# Altium schematic symbol library 5551-D_Wrist Watch.SchLib: 74 symbols
Pins are listed as number, name and electrical type; pins without a type are passive.

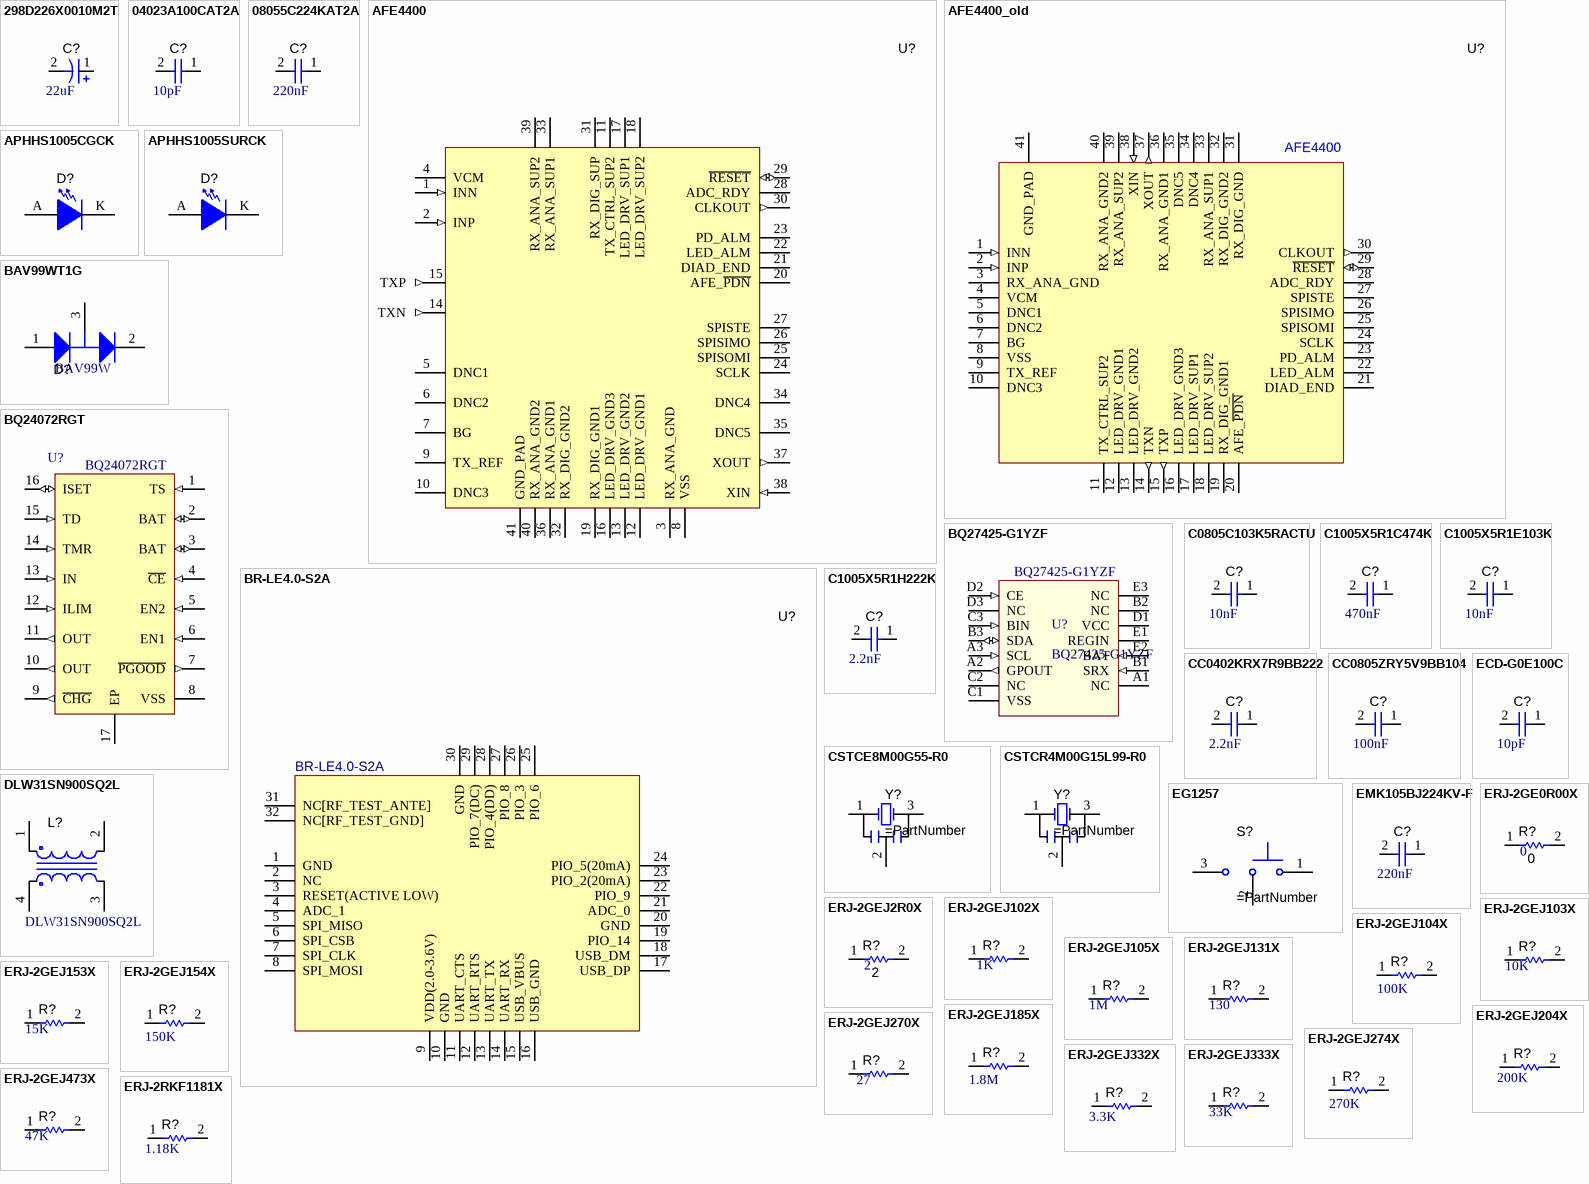
[diagram p0: symbols 298D226X0010M2T to ERJ-2RKF1181X]

## 298D226X0010M2T
designator C?  value 22uF  (hidden comment: 298D226X0010M2T)
CAP, TANTALUM, 22UF, 20%, 10V, SMT0603; MANUFACTURER: VISHAY; POPULATE: Y; CONSIGNED: N; PART NUMBER: 298D226X0010M2T
footprint Model Name (Model Description)
footprint C0603_POL
pins: 1 +, 2 -

## 04023A100CAT2A
designator C?  value 10pF  (hidden comment: 04023A100CAT2A)
CAP, CERAMIC, 10PF, +/-0.25 pF, 25V, C0G, SMT0402; MANUFACTURER: AVX; POPULATE: Y; CONSIGNED: N; PART NUMBER: 04023A100CAT2A
footprint 0402
pins: 1, 2

## 08055C224KAT2A
designator C?  value 220nF  (hidden comment: 08055C224KAT2A)
CAP, CERAMIC, 220NF, 10%, 50V, X7R, SMT0805; MANUFACTURER: AVX; POPULATE: Y; CONSIGNED: N; PART NUMBER: 08055C224KAT2A
footprint 0805
pins: 1, 2

## AFE4400
designator U?  value AFE4400
IC, INTEGRATED ANALOG FRONT-END FOR HEART RATE MONITORS AND LOW-COST PULSE OXIMETERS, QFN-40; MANUFACTURER: TEXAS INSTRUMENTS; POPULATE: Y; PART NUMBER: AFE4400; CONSIGNED: Y
footprint QFN-40[RHA-42P]
pins: 1 INN (in), 2 INP (in), 3 RX_ANA_GND (power), 4 VCM (power), 5 DNC1, 6 DNC2, 7 BG, 8 VSS (power), 9 TX_REF (power), 10 DNC3, 11 TX_CTRL_SUP2 (power), 12 LED_DRV_GND1 (power), 13 LED_DRV_GND2 (power), 14 TXN (out), 15 TXP (out), 16 LED_DRV_GND3 (power), 17 LED_DRV_SUP1 (power), 18 LED_DRV_SUP2 (power), 19 RX_DIG_GND1 (power), 20 AFE_~{PDN} (power), 21 DIAD_END, 22 LED_ALM, 23 PD_ALM, 24 SCLK, 25 SPISOMI, 26 SPISIMO, 27 SPISTE, 28 ADC_RDY, 29 ~{RESET} (io), 30 CLKOUT (out), 31 RX_DIG_SUP (power), 32 RX_DIG_GND2 (power), 33 RX_ANA_SUP1 (power), 34 DNC4, 35 DNC5, 36 RX_ANA_GND1 (power), 37 XOUT (out), 38 XIN (in), 39 RX_ANA_SUP2 (power), 40 RX_ANA_GND2 (power), 41 GND_PAD (power)

## AFE4400_old
designator U?  value AFE4400
IC, INTEGRATED ANALOG FRONT-END FOR HEART RATE MONITORS AND LOW-COST PULSE OXIMETERS, QFN-40; MANUFACTURER: TEXAS INSTRUMENTS; POPULATE: Y; PART NUMBER: AFE4400; CONSIGNED: Y
footprint QFN-40[RHA-42P]
pins: 1 INN (in), 2 INP (in), 3 RX_ANA_GND (power), 4 VCM (power), 5 DNC1, 6 DNC2, 7 BG, 8 VSS (power), 9 TX_REF (power), 10 DNC3, 11 TX_CTRL_SUP2 (power), 12 LED_DRV_GND1 (power), 13 LED_DRV_GND2 (power), 14 TXN (out), 15 TXP (out), 16 LED_DRV_GND3 (power), 17 LED_DRV_SUP1 (power), 18 LED_DRV_SUP2 (power), 19 RX_DIG_GND1 (power), 20 AFE_~{PDN} (power), 21 DIAD_END, 22 LED_ALM, 23 PD_ALM, 24 SCLK, 25 SPISOMI, 26 SPISIMO, 27 SPISTE, 28 ADC_RDY, 29 ~{RESET} (io), 30 CLKOUT (out), 31 RX_DIG_GND (power), 32 RX_DIG_GND2 (power), 33 RX_ANA_SUP1 (power), 34 DNC4, 35 DNC5, 36 RX_ANA_GND1 (power), 37 XOUT (out), 38 XIN (in), 39 RX_ANA_SUP2 (power), 40 RX_ANA_GND2 (power), 41 GND_PAD (power)

## APHHS1005CGCK
designator D?
LED, GREEN, SMT0402; PART NUMBER: APHHS1005CGCK; MANUFACTURER: KINGBRIGHT; POPULATE: Y; CONSIGNED: N; VALUE: GREEN
footprint LED_0402
pins: A, K

## APHHS1005SURCK
designator D?
LED, RED, SMT0402; PART NUMBER: APHHS1005SURCK; MANUFACTURER: KINGBRIGHT; POPULATE: Y; CONSIGNED: N; VALUE: RED
footprint LED_0402
pins: A, K

## BAV99WT1G
designator D?  value BAV99W
DIODE, DUAL SWITCHING DIODE,  0.215A, 70V, SOT-323; PART NUMBER: BAV99WT1G; MANUFACTURER: ON SEMICONDUCTOR; POPULATE: Y; CONSIGNED: N
footprint SOT-323
pins: 1 A, 2 C, 3 A_C
1 alternate drawing of the same symbol

## BQ24072RGT
designator U?
IC, 1.5A USB-FRIENDLY Li-Ion BATTERY CHARGER AND POWER-PATH MANAGEMENT IC, QFN-16; MANUFACTURER: TEXAS INSTRUMENTS; POPULATE: Y; PART NUMBER: BQ24072RGT; CONSIGNED: Y; VALUE: BQ24072RGT
footprint RGT16
pins: 1 TS (in) "External NTC Thermistor Input. Connect the TS input to the NTC thermistor in the battery pack. TS monitors a 10-k ohm NTC thermistor. For applications that do not utilize the TS function, connect a 10-k ohm fixed resistor (See Datasheet)", 2 BAT (io) "Charger Power Stage Output and Battery Voltage Sense Input. Connect BAT to the positive terminal of the battery. Bypass BAT to VSS with a 4.7-uF to 47-uF ceramic capacitor.", 3 BAT (io) "Charger Power Stage Output and Battery Voltage Sense Input. Connect BAT to the positive terminal of the battery. Bypass BAT to VSS with a 4.7-uF to 47-uF ceramic capacitor.", 4 ~{CE} (in) "Charge Enable Active-Low Input. Connect C\E\ to a high logic level to place the battery charger in standby mode. In standby mode, OUT is active and battery supplement mode is still available. Connect C\E\ to a low logic (See Datasheet)", 5 EN2 (in) "Input Current Limit Configuration Inputs. Use EN1 and EN2 control the maximum input current and enable USB compliance. See Table 2 for the description of the operation states. EN1 and EN2 are internally pulled down with ~285 (See Datasheet)", 6 EN1 (in) "Input Current Limit Configuration Inputs. Use EN1 and EN2 control the maximum input current and enable USB compliance. See Table 2 for the description of the operation states. EN1 and EN2 are internally pulled down with ~285 (See Datasheet)", 7 ~{PGOOD} (out) "Open-drain Power Good Status Indication Output. P\G\O\O\D\ pulls to VSS when a valid input source is detected. P\G\O\O\D\ is high-impedance when the input power is not within specified limits. Connect P\G\O\O\D\ to the (See Datasheet)", 8 VSS (power) "Ground. Connect to the thermal pad and to the ground rail of the circuit.", 9 ~{CHG} (out) "Open-Drain Charging Status Indication Output. C\H\G\ pulls to VSS when the battery is charging. C\H\G\ is high impedance when charging is complete and when charger is disabled.", 10 OUT (out) "System Supply Output. OUT provides a regulated output when the input is below the OVP threshold and above the regulation voltage. When the input is out of the operation range, OUT is connected to VBAT. Connect OUT to the (See Datasheet)", 11 OUT (out) "System Supply Output. OUT provides a regulated output when the input is below the OVP threshold and above the regulation voltage. When the input is out of the operation range, OUT is connected to VBAT. Connect OUT to the (See Datasheet)", 12 ILIM (in) "Adjustable Current Limit Programming Input. Connect a 3.1-k ohm to 7.8-k ohm resistor from ILIM to VSS to program the maximum input current (EN2=1, EN1=0). The input current includes the system load and the battery charge (See Datasheet)", 13 IN (in) "Input Power Connection. Connect IN to the connected to external DC supply (AC adapter or USB port). The input operating range is 4.35 V to 6.6 V. (bq24072)The input can accept voltages up to 26 V without damage but operation (See Datasheet)", 14 TMR (in) "Timer Programming Input. TMR controls the precharge and fast-charge safety timers. Connect TMR to VSS to disable all safety timers. Connect a 18-k ohm to 72-k ohm resistor between TMR and VSS to program the timers a desired (See Datasheet)", 15 TD (in) "Termination Disable Input. Connect TD high to disable charger termination. Connect TD to VSS to enable charger termination. TD is checked during start-up only and cannot be changed during operation. See the TD section in (See Datasheet)", 16 ISET (io) "Fast-Charge Current Programming Input. Connect a 3-k ohm to 36-k ohm resistor from ISET to VSS to program the fast-charge current level. Charging is disabled if ISET is left unconnected. While charging, the voltage at ISET (See Datasheet)", 17 EP (power) "There is an internal electrical connection exists between the exposed thermal pad and the VSS pin of the device. The thermal pad must be connected to the same potential as the VSS pin on the printed-circuit board. Do not use (See Datasheet)"

## BQ27425-G1YZF
designator U?
IC, SYSTEM-SIDE IMPEDANCE TRACK FUEL GAUGE WITH INTEGRATED SENSE RESISTOR, BGA-15, YZF; MANUFACTURER: TEXAS INSTRUMENTS; POPULATE: Y; PART NUMBER: BQ27425-G1YZF; CONSIGNED: Y; VALUE: BQ27425-G1YZF
footprint YZF-15
pins: A1 NC, A2 GPOUT (out), A3 SCL (in), B1 SRX (in), B2 NC, B3 SDA (io), C1 VSS (power), C2 NC, C3 BIN (in), D1 VCC (power), D2 CE (in), D3 NC, E1 REGIN (power), E2 BAT (in), E3 NC

## BR-LE4.0-S2A
designator U?  value BR-LE4.0-S2A
IC, 4.0 LOW ENERGY SINGLE MODE CLASS 1 SoC MODULE, QFN-32; MANUFACTURER: BLUE RADIOS; POPULATE: Y; PART NUMBER: BR-LE4.0-S2A; CONSIGNED: Y
footprint BR-LE4.0-D2A
pins: 1 GND (power), 2 NC, 3 RESET(ACTIVE LOW), 4 ADC_1, 5 SPI_MISO, 6 SPI_CSB, 7 SPI_CLK, 8 SPI_MOSI, 9 VDD(2.0-3.6V) (power), 10 GND (power), 11 UART_CTS, 12 UART_RTS, 13 UART_TX, 14 UART_RX, 15 USB_VBUS, 16 USB_GND, 17 USB_DP, 18 USB_DM, 19 PIO_14, 20 GND (power), 21 ADC_0, 22 PIO_9, 23 PIO_2(20mA), 24 PIO_5(20mA), 25 PIO_6, 26 PIO_3, 27 PIO_8, 28 PIO_4(DD), 29 PIO_7(DC), 30 GND (power), 31 NC[RF_TEST_ANTE], 32 NC[RF_TEST_GND]

## C0805C103K5RACTU
designator C?  value 10nF  (hidden comment: C0805C103K5RACTU)
CAP, CERAMIC, 10NF, 10%, 50V, X7R, SMT0805; MANUFACTURER: KEMET; POPULATE: Y; CONSIGNED: N; PART NUMBER: C0805C103K5RACTU
footprint 0805
pins: 1, 2

## C1005X5R1C474K
designator C?  value 470nF  (hidden comment: C1005X5R1C474K)
CAP, CERAMIC, 470NF, 10%, 16V, X5R, SMT0402; MANUFACTURER: TDK; POPULATE: Y; CONSIGNED: N; PART NUMBER: C1005X5R1C474K
footprint 0402
pins: 1, 2

## C1005X5R1E103K
designator C?  value 10nF  (hidden comment: C1005X5R1E103K)
CAP, CERAMIC, 10NF, 10%, 25V, X5R, SMT0402; MANUFACTURER: TDK; POPULATE: Y; CONSIGNED: N; PART NUMBER: C1005X5R1E103K
footprint 0402
pins: 1, 2

## C1005X5R1H222K
designator C?  value 2.2nF  (hidden comment: C1005X5R1H222K)
CAP, CERAMIC, 2.2NF, 10%, 50V, X5R, SMT0402; MANUFACTURER: TDK; POPULATE: Y; CONSIGNED: N; PART NUMBER: C1005X5R1H222K
footprint 0402
pins: 1, 2

## CC0402KRX7R9BB222
designator C?  value 2.2nF  (hidden comment: CC0402KRX7R9BB222)
CAP, CERAMIC, 2.2NF, 10%, 50V, X7R, SMT0402; MANUFACTURER: YAGEO; POPULATE: Y; CONSIGNED: N; PART NUMBER: CC0402KRX7R9BB222
footprint 0402
pins: 1, 2

## CC0805ZRY5V9BB104
designator C?  value 100nF  (hidden comment: CC0805ZRY5V9BB104)
CAP, CERAMIC, 100NF, -20%TO+80%, 50V, Y5V, SMT0805; MANUFACTURER: YAGEO; POPULATE: Y; CONSIGNED: N; PART NUMBER: CC0805ZRY5V9BB104
footprint 0805
pins: 1, 2

## CSTCE8M00G55-R0
designator Y?
CRYSTAL, PIEZO CERAMIC RESONATOR, 8.00 MHz, SMD, 0.5%, 33pF, SMD; PART NUMBER: CSTCE8M00G55-R0; MANUFACTURER: MURATA; VALUE: 8MHz; POPULATE: Y; CONSIGNED: N
footprint RESONATOR-1.3X3.2-MURATA
pins: 1, 2, 3

## CSTCR4M00G15L99-R0
designator Y?
CRYSTAL, PIEZO CERAMIC RESONATOR, 4.00 MHz,  +/-0.1%, 39pF, SMD; PART NUMBER: CSTCR4M00G15L99-R0; MANUFACTURER: MURATA; VALUE: 4MHz; POPULATE: Y; CONSIGNED: N
footprint CRYSTAL-2X4.5MM_3P
pins: 1, 2, 3

## DLW31SN900SQ2L
designator L?  value DLW31SN900SQ2L
INDUCTOR, CHOKE COIL WIRE WOUND, 0.37A, SMT1206, 4-PIN; MANUFACTURER: MURATA; POPULATE: Y; CONSIGNED: N; PART NUMBER: DLW31SN900SQ2L
footprint IND_1206-4P
pins: 1, 2, 3, 4

## ECD-G0E100C
designator C?  value 10pF  (hidden comment: ECD-G0E100C)
CAP, CERAMIC, 10PF, +/-0.25 pF, 25V, C0G, SMT0402; MANUFACTURER: PANASONIC; POPULATE: Y; CONSIGNED: N; PART NUMBER: ECD-G0E100C
footprint 0402
pins: 1, 2

## EG1257
designator S?
SWITCH, SPDT, SLIDE, SMD; PART NUMBER: EG1257; MANUFACTURER: E-SWITCH; VALUE: EG1257; POPULATE: Y; CONSIGNED: N
footprint SW_EG1257
pins: 1, 2, 3

## EMK105BJ224KV-F
designator C?  value 220nF  (hidden comment: EMK105BJ224KV-F)
CAP, CERAMIC, 220NF, 10%, 16V, X5R, SMT0402; MANUFACTURER: TAIYO YUDEN; POPULATE: Y; CONSIGNED: N; PART NUMBER: EMK105BJ224KV-F
footprint 0402
pins: 1, 2

## ERJ-2GE0R00X
designator R?, comment 0
RESISTOR, THICK FILM, 0, JUMPER, 0.1W, SMT0402; PART NUMBER: ERJ-2GE0R00X; MANUFACTURER: PANASONIC; POPULATE: N; CONSIGNED: N; VALUE: 0
footprint 0402
pins: 1, 2

## ERJ-2GEJ2R0X
designator R?, comment 2
RESISTOR, THICK FILM, 2, 0.1W, 5%, SMT0402; PART NUMBER: ERJ-2GEJ2R0X; MANUFACTURER: PANASONIC; POPULATE: N; CONSIGNED: N; VALUE: 2
footprint 0402
pins: 1, 2

## ERJ-2GEJ102X
designator R?, comment 1K
RESISTOR, THICK FILM, 1K, 5%, 0.1W, SMT0402; PART NUMBER: ERJ-2GEJ102X; MANUFACTURER: PANASONIC; POPULATE: Y; CONSIGNED: N; VALUE: 1K
footprint 0402
pins: 1, 2

## ERJ-2GEJ103X
designator R?, comment 10K
RESISTOR, THICK FILM, 10K, 5%, 0.1W, SMT0402; PART NUMBER: ERJ-2GEJ103X; MANUFACTURER: PANASONIC; POPULATE: Y; CONSIGNED: N; VALUE: 10K
footprint 0402
pins: 1, 2

## ERJ-2GEJ104X
designator R?, comment 100K
RESISTOR, THICK FILM, 100K, 5%, 0.1W, SMT0402; PART NUMBER: ERJ-2GEJ104X; MANUFACTURER: PANASONIC; POPULATE: Y; CONSIGNED: N; VALUE: 100K
footprint 0402
pins: 1, 2

## ERJ-2GEJ105X
designator R?, comment 1M
RESISTOR, THICK FILM, 1M, 5%, 0.1W, SMT0402; PART NUMBER: ERJ-2GEJ105X; MANUFACTURER: PANASONIC; POPULATE: Y; CONSIGNED: N; VALUE: 1M
footprint 0402
pins: 1, 2

## ERJ-2GEJ131X
designator R?, comment 130
RESISTOR, THICK FILM, 130 OHM, 5%, 0.1W, SMT0402; PART NUMBER: ERJ-2GEJ131X; MANUFACTURER: PANASONIC; POPULATE: Y; CONSIGNED: N; VALUE: 130
footprint 0402
pins: 1, 2

## ERJ-2GEJ153X
designator R?, comment 15K
RESISTOR, THICK FILM, 15K, 5%, 0.1W, SMT0402; PART NUMBER: ERJ-2GEJ153X; MANUFACTURER: PANASONIC; POPULATE: Y; CONSIGNED: N; VALUE: 15K
footprint 0402
pins: 1, 2

## ERJ-2GEJ154X
designator R?, comment 150K
RESISTOR, THICK FILM, 150K, 5%, 0.1W, SMT0402; PART NUMBER: ERJ-2GEJ154X; MANUFACTURER: PANASONIC; POPULATE: Y; CONSIGNED: N; VALUE: 150K
footprint 0402
pins: 1, 2

## ERJ-2GEJ185X
designator R?, comment 1.8M
RESISTOR, THICK FILM, 1.8M, 5%, 0.1W, SMT0402; PART NUMBER: ERJ-2GEJ185X; MANUFACTURER: PANASONIC; POPULATE: Y; CONSIGNED: N; VALUE: 1.8M
footprint 0402
pins: 1, 2

## ERJ-2GEJ204X
designator R?, comment 200K
RESISTOR, THICK FILM, 200K, 5%, 0.1W, SMT0402; PART NUMBER: ERJ-2GEJ204X; PARTNUMBER: PANASONIC; POPULATE: Y; CONSIGNED: N; VALUE: 200K
footprint 0402
pins: 1, 2

## ERJ-2GEJ270X
designator R?, comment 27
RESISTOR, THICK FILM, 27 OHM, 5%, 0.1W, SMT0402; PART NUMBER: ERJ-2GEJ270X; MANUFACTURER: PANASONIC; POPULATE: Y; CONSIGNED: N; VALUE: 27
footprint 0402
pins: 1, 2

## ERJ-2GEJ274X
designator R?, comment 270K
RESISTOR, THICK FILM, 270K, 5%, 0.1W, SMT0402; PART NUMBER: ERJ-2GEJ274X; MANUFACTURER: PANASONIC; POPULATE: Y; CONSIGNED: N; VALUE: 270K
footprint 0402
pins: 1, 2

## ERJ-2GEJ332X
designator R?, comment 3.3K
RESISTOR, THICK FILM, 3.3K, 5%, 0.1W, SMT0402; PART NUMBER: ERJ-2GEJ332X; MANUFACTURER: PANASONIC; POPULATE: Y; CONSIGNED: N; VALUE: 3.3K
footprint 0402
pins: 1, 2

## ERJ-2GEJ333X
designator R?, comment 33K
RESISTOR, THICK FILM, 33K, 5%, 0.1W, SMT0402; PART NUMBER: ERJ-2GEJ333X; MANUFACTURER: PANASONIC; POPULATE: Y; CONSIGNED: N; VALUE: 33K
footprint 0402
pins: 1, 2

## ERJ-2GEJ473X
designator R?, comment 47K
RESISTOR, THICK FILM, 47K, 5%, 0.1W, SMT0402; PART NUMBER: ERJ-2GEJ473X; MANUFACTURER: PANASONIC; POPULATE: Y; CONSIGNED: N; VALUE: 47K
footprint 0402
pins: 1, 2

## ERJ-2RKF1181X
designator R?, comment 1.18K
RESISTOR, THICK FILM, 1.18K, 1%, 0.1W, SMT0402; PARTNUMBER: ERJ-2RKF1181X; MANUFACTURER: PANASONIC; POPULATE: Y; CONSIGNED: N; VALUE: 1.18K
footprint 0402
pins: 1, 2

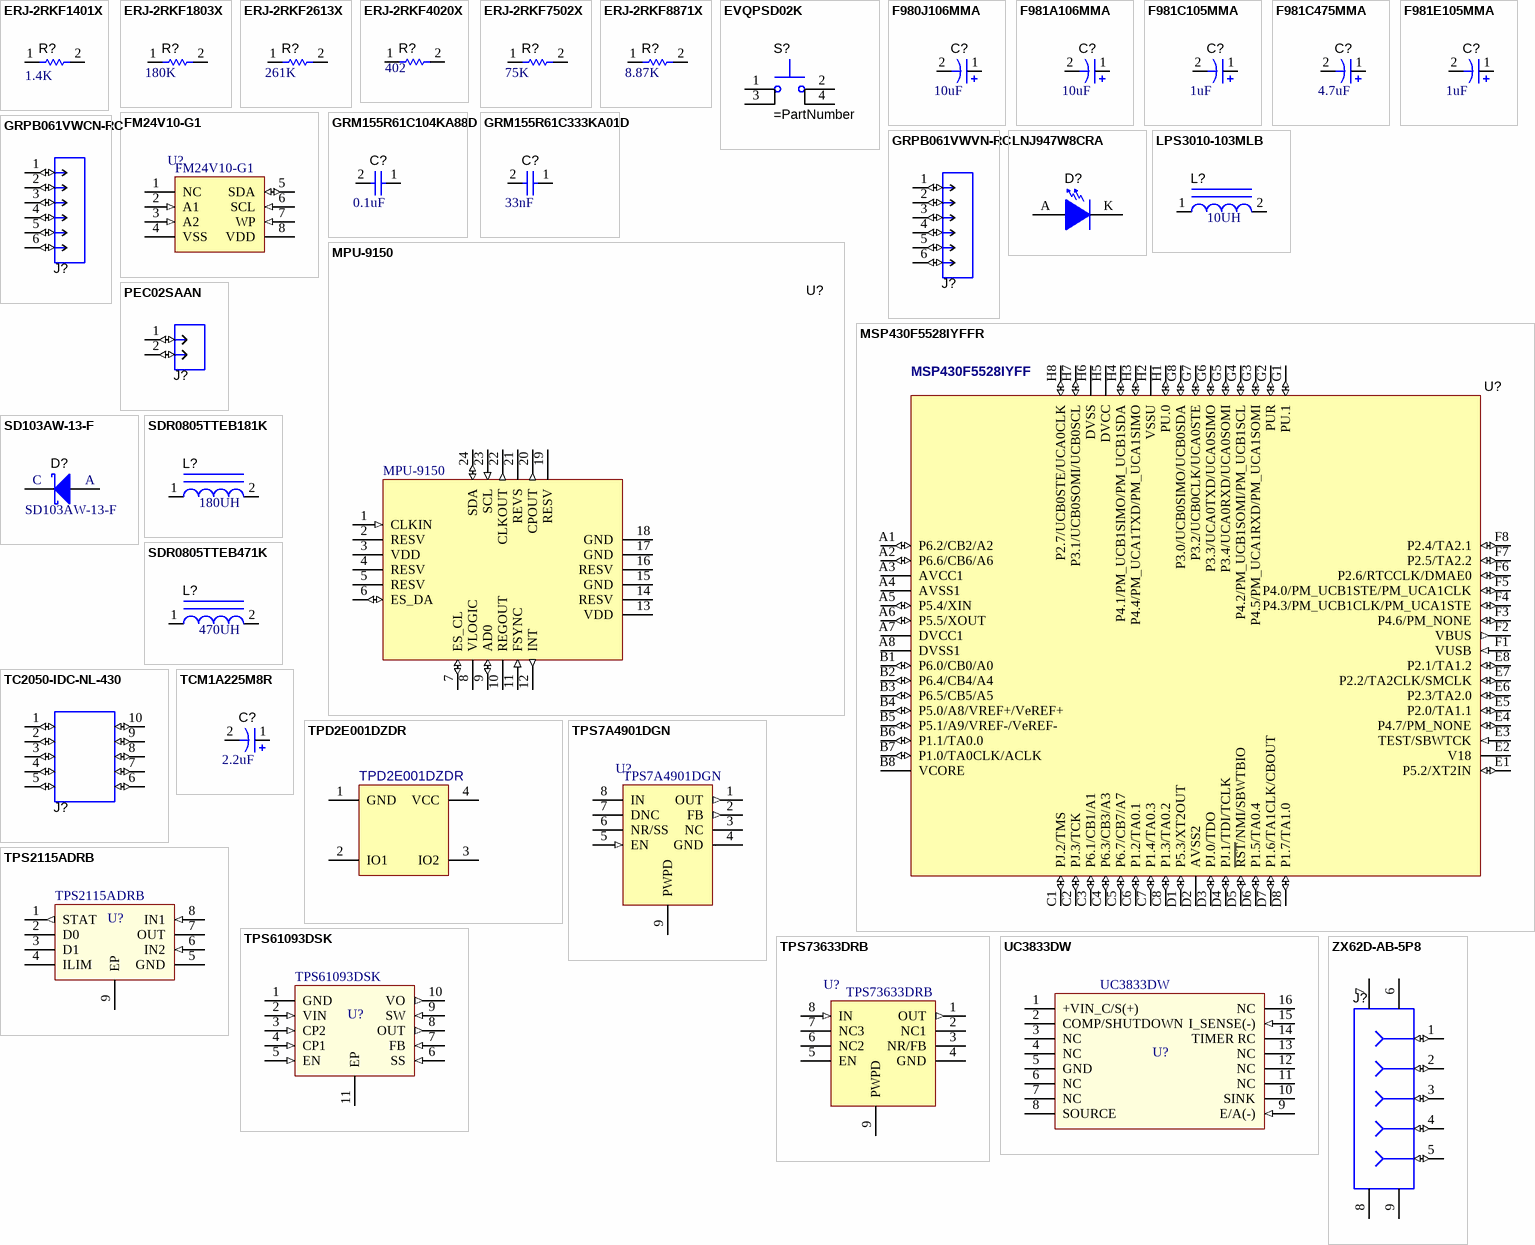
[diagram p1: symbols ERJ-2RKF1401X to ZX62D-AB-5P8]

## ERJ-2RKF1401X
designator R?, comment 1.4K
RESISTOR, THICK FILM, 1.4K, 1%, 0.1W, SMT0402; PART NUMBER: ERJ-2RKF1401X; MANUFACTURER: PANASONIC; POPULATE: Y; CONSIGNED: N; VALUE: 1.4K
footprint 0402
pins: 1, 2

## ERJ-2RKF1803X
designator R?, comment 180K
RESISTOR, THICK FILM, 180K, 1%, 0.1W, SMT0402; PARTNUMBER: ERJ-2RKF1803X; MANUFACTURER: PANASONIC; POPULATE: Y; CONSIGNED: N; VALUE: 180K
footprint 0402
pins: 1, 2

## ERJ-2RKF2613X
designator R?, comment 261K
RESISTOR, THICK FILM, 261K, 1%, 0.1W, SMT0402; PARTNUMBER: ERJ-2RKF2613X; MANUFACTURER: PANASONIC; POPULATE: Y; CONSIGNED: N; VALUE: 261K
footprint 0402
pins: 1, 2

## ERJ-2RKF4020X
designator R?, comment 402
RESISTOR, THICK FILM, 402 OHM, 1%, 0.1W, SMT0402; PART NUMBER: ERJ-2RKF4020X; MANUFACTURER: PANASONIC; POPULATE: Y; CONSIGNED: N; VALUE: 402
footprint 0402
pins: 1, 2

## ERJ-2RKF7502X
designator R?, comment 75K
RESISTOR, THICK FILM, 75K, 1%, 0.1W, SMT0402; PARTNUMBER: ERJ-2RKF7502X; MANUFACTURER: PANASONIC; POPULATE: Y; CONSIGNED: N; VALUE: 75K
footprint 0402
pins: 1, 2

## ERJ-2RKF8871X
designator R?, comment 8.87K
RESISTOR, THICK FILM, 8.87K, 1%, 0.1W,SMT0402; PART NUMBER: ERJ-2RKF8871X; MANUFACTURER: PANASONIC; POPULATE: Y; CONSIGNED: N; VALUE: 8.87K
footprint 0402
pins: 1, 2

## EVQPSD02K
designator S?
SWITCH, LIGHT TOUCH, SIDE-OPERATIONAL, SMD; PART NUMBER: EVQPSD02K; MANUFACTURER: PANASONIC; VALUE: EVQPSD02K; POPULATE: Y; CONSIGNED: N
footprint SW_EVQPS-J
pins: 1, 2, 3, 4

## F980J106MMA
designator C?  value 10uF  (hidden comment: F980J106MMA)
CAP,TANTALUM, 10UF, 20%, 6.3V, 6 OHM, SMT0603; MANUFACTURER: NICHICON; POPULATE: Y; CONSIGNED: N; PART NUMBER: F980J106MMA
footprint C0603_POL
pins: 1 +, 2 -

## F981A106MMA
designator C?  value 10uF  (hidden comment: F981A106MMA)
CAP,TANTALUM, 10UF, 20%, 10V, 7.5 OHM, SMT0603; MANUFACTURER: NICHICON; POPULATE: Y; CONSIGNED: N; PART NUMBER: F981A106MMA
footprint C0603_POL
pins: 1 +, 2 -

## F981C105MMA
designator C?  value 1uF  (hidden comment: F981C105MMA)
CAP, TANTALUM, 1UF, 20%, 16V, 10 OHM, SMT0603; MANUFACTURER: NICHICON; POPULATE: Y; CONSIGNED: N; PART NUMBER: F981C105MMA
footprint C0603_POL
pins: 1 +, 2 -

## F981C475MMA
designator C?  value 4.7uF  (hidden comment: F981C475MMA)
CAP, TANTALUM, 4.7UF, 20%, 16V, 12 OHM, SMT0603; MANUFACTURER: NICHICON; POPULATE: Y; CONSIGNED: N; PART NUMBER: F981C475MMA
footprint C0603_POL
pins: 1 +, 2 -

## F981E105MMA
designator C?  value 1uF  (hidden comment: F981E105MMA)
CAP, TANTALUM, 1UF, 20%, 25V, 10 OHM, SMT0603; MANUFACTURER: NICHICON; POPULATE: Y; CONSIGNED: N; PART NUMBER: F981E105MMA
footprint C0603_POL
pins: 1 +, 2 -

## FM24V10-G1
designator U?
IC, NVRAM MEMORY, SOIC-8; MANUFACTURER: RAMTRON; POPULATE: Y; CONSIGNED: N; PART NUMBER: FM24V10-G1; VALUE: FM24V10-G1
footprint FM24V10_SOIC8
pins: 1 NC, 2 A1 (in), 3 A2 (in), 4 VSS (power), 5 SDA (io), 6 SCL (in), 7 WP (in), 8 VDD (power)

## GRM155R61C104KA88D
designator C?  value 0.1uF  (hidden comment: GRM155R61C104KA88D)
CAP, CERAMIC, 0.1UF, 10%, 16V, X5R, SMT0402; MANUFACTURER: MURATA; POPULATE: Y; CONSIGNED: N; PART NUMBER: GRM155R61C104KA88D
footprint 0402
pins: 1, 2

## GRM155R61C333KA01D
designator C?  value 33nF  (hidden comment: GRM155R61C333KA01D)
CAP, CERAMIC, 33NF, 10%, 16V, X5R, SMT0402; MANUFACTURER: MURATA; POPULATE: Y; CONSIGNED: N; PART NUMBER: GRM155R61C333KA01D
footprint 0402
pins: 1, 2

## GRPB061VWCN-RC
designator J?
CONNECTOR, HEADER, SINGLE ROW, RA, 6-PIN; MANUFACTURER: SULLINS; POPULATE: N; VALUE: GRPB061VWCN-RC; PART NUMBER: GRPB061VWCN-RC; CONSIGNED: N
footprint CONN_GRPB061VWCN
pins: 1 (io), 2 (io), 3 (io), 4 (io), 5 (io), 6 (io)

## GRPB061VWVN-RC
designator J?
CONNECTOR, HEADER, SINGLE ROW, VERTICAL, 6-PIN; MANUFACTURER: SULLINS; POPULATE: N; VALUE: GRPB061VWVN-RC; PART NUMBER: GRPB061VWVN-RC; CONSIGNED: N
footprint HDR50_1X6
pins: 1 (io), 2 (io), 3 (io), 4 (io), 5 (io), 6 (io)

## LNJ947W8CRA
designator D?
LED, BLUE, SMT0402; PART NUMBER: LNJ947W8CRA; MANUFACTURER: PANASONIC; POPULATE: Y; CONSIGNED: N; VALUE: BLUE
footprint LED_0402
pins: A, K

## LPS3010-103MLB
designator L?  value 10UH
INDUCTOR, FERRITE, 10UH, 58MHZ, SMT-2 PIN; PART NUMBER: LPS3010-103MLB; MANUFACTURER: COILCRAFT; POPULATE: Y; CONSIGNED: N
footprint IND_LPS3010_SERIES
pins: 1, 2

## MPU-9150
designator U?
IC, TRIPLE-AXIS MEMS GYROSCOPE, LGA-24; MANUFACTURER: INVENSENSE INC; POPULATE: Y; CONSIGNED: Y; PART NUMBER: MPU-9150; VALUE: MPU-9150
footprint LGA-4X4MM-24P
pins: 1 CLKIN (in), 2 RESV, 3 VDD (power), 4 RESV, 5 RESV, 6 ES_DA (io), 7 ES_CL (io), 8 VLOGIC (power), 9 AD0 (io), 10 REGOUT, 11 FSYNC (in), 12 INT (out), 13 VDD (power), 14 RESV, 15 GND (power), 16 RESV, 17 GND (power), 18 GND (power), 19 RESV, 20 CPOUT (out), 21 REVS, 22 CLKOUT (out), 23 SCL (in), 24 SDA (io)

## MSP430F5528IYFFR
designator U?  value MSP430F5528IYFF
IC, MIXED SIGNAL MICROCONTROLLER, BGA-64; PART NUMBER: MSP430F5528IYFFR; MANUFACTURER: TEXAS INSTRUMENTS; POPULATE: Y; CONSIGNED: Y
footprint YFF-64
pins: A1 P6.2/CB2/A2 (io), A2 P6.6/CB6/A6 (io), A3 AVCC1 (power), A4 AVSS1 (power), A5 P5.4/XIN (io), A6 P5.5/XOUT (io), A7 DVCC1 (power), A8 DVSS1 (power), B1 P6.0/CB0/A0 (io), B2 P6.4/CB4/A4 (io), B3 P6.5/CB5/A5 (io), B4 P5.0/A8/VREF+/VeREF+ (io), B5 P5.1/A9/VREF-/VeREF- (io), B6 P1.1/TA0.0 (io), B7 P1.0/TA0CLK/ACLK (io), B8 VCORE (power), C1 PJ.2/TMS (io), C2 PJ.3/TCK (io), C3 P6.1/CB1/A1 (io), C4 P6.3/CB3/A3 (io), C5 P6.7/CB7/A7 (io), C6 P1.2/TA0.1 (io), C7 P1.4/TA0.3 (io), C8 P1.3/TA0.2 (io), D1 P5.3/XT2OUT (io), D2 AVSS2 (power), D3 PJ.0/TDO (io), D4 PJ.1/TDI/TCLK (io), D5 ~{RST}/NMI/SBWTBIO (io), D6 P1.5/TA0.4 (io), D7 P1.6/TA1CLK/CBOUT (io), D8 P1.7/TA1.0 (io), E1 P5.2/XT2IN (io), E2 V18 (power), E3 TEST/SBWTCK (in), E4 P4.7/PM_NONE (io), E5 P2.0/TA1.1 (io), E6 P2.3/TA2.0 (io), E7 P2.2/TA2CLK/SMCLK (io), E8 P2.1/TA1.2 (io), F1 VUSB (in), F2 VBUS (out), F3 P4.6/PM_NONE (io), F4 P4.3/PM_UCB1CLK/PM_UCA1STE (io), F5 P4.0/PM_UCB1STE/PM_UCA1CLK (io), F6 P2.6/RTCCLK/DMAE0 (io), F7 P2.5/TA2.2 (io), F8 P2.4/TA2.1 (io), G1 PU.1 (io), G2 PUR (io), G3 P4.5/PM_UCA1RXD/PM_UCA1SOMI (io), G4 P4.2/PM_UCB1SOMI/PM_UCB1SCL (io), G5 P3.4/UCA0RXD/UCA0SOMI (io), G6 P3.3/UCA0TXD/UCA0SIMO (io), G7 P3.2/UCB0CLK/UCA0STE (io), G8 P3.0/UCB0SIMO/UCB0SDA (io), H1 PU.0 (io), H2 VSSU (power), H3 P4.4/PM_UCA1TXD/PM_UCA1SIMO (io), H4 P4.1/PM_UCB1SIMO/PM_UCB1SDA (io), H5 DVCC (power), H6 DVSS (power), H7 P3.1/UCB0SOMI/UCB0SCL (io), H8 P2.7/UCB0STE/UCA0CLK (io)

## PEC02SAAN
designator J?
CONNECTOR, HEADER, SINGLE ROW, VERTICAL, 2-PIN; MANUFACTURER: SULLINS; POPULATE: N; VALUE: PEC02SAAN; PART NUMBER: PEC02SAAN; CONSIGNED: N
footprint HDR100_1X2
pins: 1 (io), 2 (io)

## SD103AW-13-F
designator D?
DIODE, SCHOTTKY, 0.35A, 40V, SOD-123; MANUFACTURER: DIODES INC; POPULATE: Y; CONSIGNED: N; PART NUMBER: SD103AW-13-F; VALUE: SD103AW-13-F
footprint D_SOD123
pins: 1, 2
text: C; A

## SDR0805TTEB181K
designator L?  value 180UH
INDUCTOR, POWER CHOKE COIL, 470UH, 10%, 0.34A, SMT0805; PART NUMBER: SDR0805TTEB181K; MANUFACTURER: KOA SPEER; POPULATE: Y; CONSIGNED: N
footprint 0805
pins: 1, 2

## SDR0805TTEB471K
designator L?  value 470UH
INDUCTOR, POWER CHOKE COIL, 470UH, 10%, 0.34A, SMT0805; PART NUMBER: SDR0805TTEB471K; MANUFACTURER: KOA SPEER; POPULATE: Y; CONSIGNED: N
footprint 0805
pins: 1, 2

## TC2050-IDC-NL-430
designator J?
CONNECTOR, PLUG OF NAILS CABLE, DUAL ROW, VERTICAL, 10-PIN; MANUFACTURER: TAG CONNECT; POPULATE: N; VALUE: TC2050-IDC-NL-430; PART NUMBER: TC2050-IDC-NL-430; CONSIGNED: N
footprint TC2050-IDC-NL
pins: 1 (io), 2 (io), 3 (io), 4 (io), 5 (io), 6 (io), 7 (io), 8 (io), 9 (io), 10 (io)

## TCM1A225M8R
designator C?  value 2.2uF  (hidden comment: TCM1A225M8R)
CAP, TANTALUM, 2.2UF, 20%, 10V, SMT0603; MANUFACTURER: ROHM SEMICONDCTOR; POPULATE: Y; CONSIGNED: N; PART NUMBER: TCM1A225M8R
footprint C0603_POL
pins: 1 +, 2 -

## TPD2E001DZDR
designator U?  value TPD2E001DZDR
IC, LOW-CAPACITANCE 2-Chan ±15-kV ESD-PROTECTION ARRAY, SOP-4; MANUFACTURER: TEXAS INSTRUMENTS; POPULATE: Y; PART NUMBER: TPD2E001DZDR; CONSIGNED: Y
footprint DZD
pins: 1 GND (power), 2 IO1, 3 IO2, 4 VCC (power)

## TPS7A4901DGN
designator U?
IC, ULTRALOW NOISE, HIGH-PSRR, LDO REGULATOR, VIN 3V TO 35V, 150mA ,MSOP-8, DGN; MANUFACTURER: TEXAS INSTRUMENTS; POPULATE: Y; CONSIGNED: Y; PART NUMBER: TPS7A4901DGN; VALUE: TPS7A4901DGN
footprint DGN_8P
pins: 1 OUT (out), 2 FB (out), 3 NC, 4 GND (power), 5 EN (in), 6 NR/SS, 7 DNC, 8 IN (power), 9 PWPD (power)

## TPS2115ADRB
designator U?
IC, AUTOSWITCHING POWER MUX, SON-8, DRB; MANUFACTURER: TEXAS INSTRUMENTS; POPULATE: Y; PART NUMBER: TPS2115ADRB; CONSIGNED: Y; VALUE: TPS2115ADRB
footprint DRB-8
pins: 1 STAT (out), 2 D0 (power), 3 D1, 4 ILIM, 5 GND (power), 6 IN2 (in), 7 OUT, 8 IN1 (in), 9 EP (power)

## TPS61093DSK
designator U?
IC, LOW INPUT BOOST CONVERTER WITH INTEGRATED POWER DIODE AND ISOLATION, SON-10, DSK; MANUFACTURER: TEXAS INSTRUMENTS; POPULATE: Y; PART NUMBER: TPS61093DSK; CONSIGNED: Y; VALUE: TPS61093DSK
footprint DSK
pins: 1 GND (power), 2 VIN (in), 3 CP2 (in), 4 CP1 (in), 5 EN (in), 6 SS (in), 7 FB (in), 8 OUT (out), 9 SW (in), 10 VO (out), 11 EP (power)

## TPS73633DRB
designator U?
IC, CAP-FREE, NMOS, 400mA LDO REGULATOR WITH REVERSE CURRENT PROTECTION SON-8; MANUFACTURER: TEXAS INSTRUMENTS; POPULATE: Y; PART NUMBER: TPS73633DRB; CONSIGNED: Y; VALUE: TPS73633DRB
footprint DRB-8
pins: 1 OUT (out), 2 NC1, 3 NR/FB, 4 GND (power), 5 EN, 6 NC2, 7 NC3, 8 IN (in), 9 PWPD (power)

## UC3833DW
designator U?  value UC3833DW
IC, LINEAR CONTROLLER, SOIC-16, DW; MANUFACTURER: TEXAS INSTRUMENTS; POPULATE: Y; PART NUMBER: UC3833DW; CONSIGNED: Y
footprint DW16-A
pins: 1 +VIN_C/S(+) (power), 2 COMP/SHUTDOWN, 3 NC, 4 NC, 5 GND (power), 6 NC, 7 NC, 8 SOURCE, 9 E/A(-) (in), 10 SINK, 11 NC, 12 NC, 13 NC, 14 TIMER RC, 15 I_SENSE(-) (in), 16 NC

## ZX62D-AB-5P8
designator J?
CONNECTOR,  MICRO-USB-AB, RECEPTACLE, RIGHT ANGLE, 5-PIN; MANUFACTURER: HIROSE; POPULATE: Y; VALUE: ZX62D-AB-5P8; CONSIGNED: N; PART NUMBER: ZX62D-AB-5P8
footprint USB-ZX62D-AB-5P8_REVISED
pins: 1 (io), 2 (io), 3 (io), 4 (io), 5 (io), 6 (power), 7 (power), 8 (power), 9 (power)